# Altium schematic symbol library WR-WTB_1.50mm.SchLib: 27 symbols
Pins are listed as number, name and electrical type; pins without a type are passive.

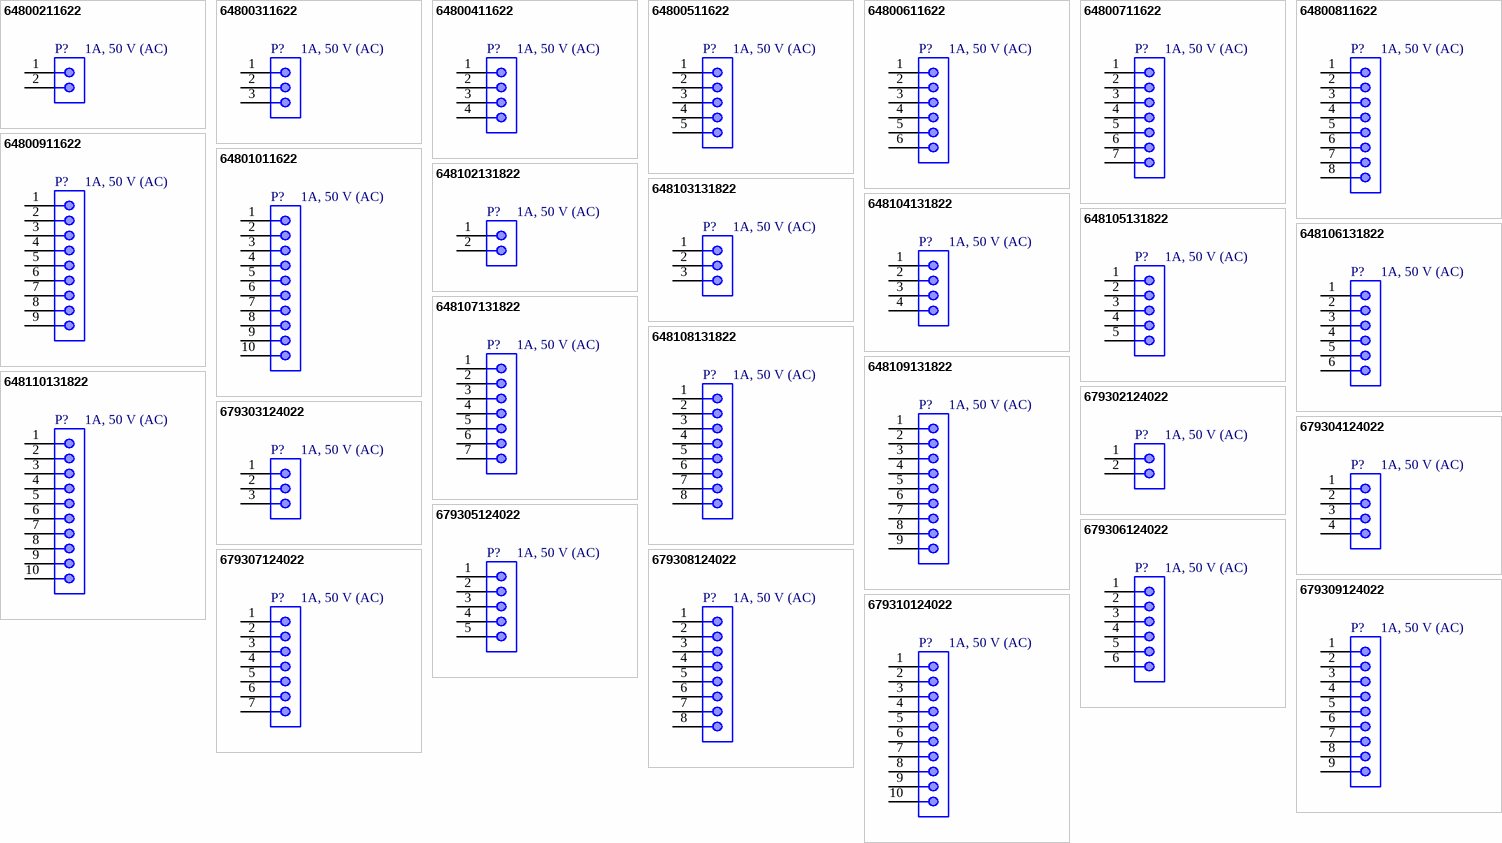
[diagram p0: symbols 64800211622 to 679310124022]

## 64800211622
designator P?, comment 1A, 50 V (AC)
WR-WTB THT Male Vertical Shrouded Header, pitch 1.5mm, 2p; Part Number: 64800211622; Pin Number: 2; Contact Resistance: 20mOhm; Withstanding Voltage: 500VAC; Working Voltage: 50VAC; ComponentLink1Description: Manufacturer; ComponentLink1URL: http://www.we-online.de; ComponentLink2Description: Datasheet; ComponentLink2URL: https://www.we-online.com/catalog/datasheet/64800211622.pdf; Pitch: 1.5mm; Published Date: January 2020; Publisher: Wurth Elektronik; Mounting Technology: THT; Packaging: Bag; Operating Temperature: -25 to +85degC; Gender: Male; Type: Vertical; Rated Current: 1A; ComponentLink3Description: Global Supply; ComponentLink3URL: https://www.we-online.com/en/components/products/WTB_1_50_MALE_VERTICAL_SHROUDED_HEADER_6480XX11622?sq=64800211622#64800211622; Supplier 1 Name: Mouser; Supplier 1 SN: N/A; Supplier 1 URL: N/A; Supplier 2 Name: Digi-Key; Supplier 2 SN: N/A; Supplier 2 URL: N/A; Supplier 3 Name: thegioiic; Supplier 3 SN: N/A; Supplier 3 URL: N/A; Value: 1A, 50 V (AC)
footprint 64800211622
pins: 1, 2

## 64800311622
designator P?, comment 1A, 50 V (AC)
WR-WTB THT Male Vertical Shrouded Header, pitch 1.5mm, 3p; Part Number: 64800311622; Pin Number: 3; Contact Resistance: 20mOhm; Withstanding Voltage: 500VAC; Working Voltage: 50VAC; ComponentLink1Description: Manufacturer; ComponentLink1URL: http://www.we-online.de; ComponentLink2Description: Datasheet; ComponentLink2URL: https://www.we-online.com/catalog/datasheet/64800311622.pdf; Pitch: 1.5mm; Published Date: January 2020; Publisher: Wurth Elektronik; Mounting Technology: THT; Packaging: Bag; Operating Temperature: -25 to +85degC; Gender: Male; Type: Vertical; Rated Current: 1A; ComponentLink3Description: Global Supply; ComponentLink3URL: https://www.we-online.com/en/components/products/WTB_1_50_MALE_VERTICAL_SHROUDED_HEADER_6480XX11622?sq=64800311622#64800311622; Supplier 1 Name: Mouser; Supplier 1 SN: N/A; Supplier 1 URL: N/A; Supplier 2 Name: Digi-Key; Supplier 2 SN: N/A; Supplier 2 URL: N/A; Supplier 3 Name: thegioiic; Supplier 3 SN: N/A; Supplier 3 URL: N/A; Value: 1A, 50 V (AC)
footprint 64800311622
pins: 1, 2, 3

## 64800411622
designator P?, comment 1A, 50 V (AC)
WR-WTB THT Male Vertical Shrouded Header, pitch 1.5mm, 4p; Part Number: 64800411622; Pin Number: 4; Contact Resistance: 20mOhm; Withstanding Voltage: 500VAC; Working Voltage: 50VAC; ComponentLink1Description: Manufacturer; ComponentLink1URL: http://www.we-online.de; ComponentLink2Description: Datasheet; ComponentLink2URL: https://www.we-online.com/catalog/datasheet/64800411622.pdf; Pitch: 1.5mm; Published Date: January 2020; Publisher: Wurth Elektronik; Mounting Technology: THT; Packaging: Bag; Operating Temperature: -25 to +85degC; Gender: Male; Type: Vertical; Rated Current: 1A; ComponentLink3Description: Global Supply; ComponentLink3URL: https://www.we-online.com/en/components/products/WTB_1_50_MALE_VERTICAL_SHROUDED_HEADER_6480XX11622?sq=64800411622#64800411622; Supplier 1 Name: Mouser; Supplier 1 SN: N/A; Supplier 1 URL: N/A; Supplier 2 Name: Digi-Key; Supplier 2 SN: N/A; Supplier 2 URL: N/A; Supplier 3 Name: thegioiic; Supplier 3 SN: N/A; Supplier 3 URL: N/A; Value: 1A, 50 V (AC)
footprint 64800411622
pins: 1, 2, 3, 4

## 64800511622
designator P?, comment 1A, 50 V (AC)
WR-WTB THT Male Vertical Shrouded Header, pitch 1.5mm, 5p; Part Number: 64800511622; Pin Number: 5; Contact Resistance: 20mOhm; Withstanding Voltage: 500VAC; Working Voltage: 50VAC; ComponentLink1Description: Manufacturer; ComponentLink1URL: http://www.we-online.de; ComponentLink2Description: Datasheet; ComponentLink2URL: https://www.we-online.com/catalog/datasheet/64800511622.pdf; Pitch: 1.5mm; Published Date: January 2020; Publisher: Wurth Elektronik; Mounting Technology: THT; Packaging: Bag; Operating Temperature: -25 to +85degC; Gender: Male; Type: Vertical; Rated Current: 1A; ComponentLink3Description: Global Supply; ComponentLink3URL: https://www.we-online.com/en/components/products/WTB_1_50_MALE_VERTICAL_SHROUDED_HEADER_6480XX11622?sq=64800511622#64800511622; Supplier 1 Name: Mouser; Supplier 1 SN: N/A; Supplier 1 URL: N/A; Supplier 2 Name: Digi-Key; Supplier 2 SN: N/A; Supplier 2 URL: N/A; Supplier 3 Name: thegioiic; Supplier 3 SN: N/A; Supplier 3 URL: N/A; Value: 1A, 50 V (AC)
footprint 64800511622
pins: 1, 2, 3, 4, 5

## 64800611622
designator P?, comment 1A, 50 V (AC)
WR-WTB THT Male Vertical Shrouded Header, pitch 1.5mm, 6p; Part Number: 64800611622; Pin Number: 6; Contact Resistance: 20mOhm; Withstanding Voltage: 500VAC; Working Voltage: 50VAC; ComponentLink1Description: Manufacturer; ComponentLink1URL: http://www.we-online.de; ComponentLink2Description: Datasheet; ComponentLink2URL: https://www.we-online.com/catalog/datasheet/64800611622.pdf; Pitch: 1.5mm; Published Date: January 2020; Publisher: Wurth Elektronik; Mounting Technology: THT; Packaging: Bag; Operating Temperature: -25 to +85degC; Gender: Male; Type: Vertical; Rated Current: 1A; ComponentLink3Description: Global Supply; ComponentLink3URL: https://www.we-online.com/en/components/products/WTB_1_50_MALE_VERTICAL_SHROUDED_HEADER_6480XX11622?sq=64800611622#64800611622; Supplier 1 Name: Mouser; Supplier 1 SN: N/A; Supplier 1 URL: N/A; Supplier 2 Name: Digi-Key; Supplier 2 SN: N/A; Supplier 2 URL: N/A; Supplier 3 Name: thegioiic; Supplier 3 SN: N/A; Supplier 3 URL: N/A; Value: 1A, 50 V (AC)
footprint 64800611622
pins: 1, 2, 3, 4, 5, 6

## 64800711622
designator P?, comment 1A, 50 V (AC)
WR-WTB THT Male Vertical Shrouded Header, pitch 1.5mm, 7p; Part Number: 64800711622; Pin Number: 7; Contact Resistance: 20mOhm; Withstanding Voltage: 500VAC; Working Voltage: 50VAC; ComponentLink1Description: Manufacturer; ComponentLink1URL: http://www.we-online.de; ComponentLink2Description: Datasheet; ComponentLink2URL: https://www.we-online.com/catalog/datasheet/64800711622.pdf; Pitch: 1.5mm; Published Date: January 2020; Publisher: Wurth Elektronik; Mounting Technology: THT; Packaging: Bag; Operating Temperature: -25 to +85degC; Gender: Male; Type: Vertical; Rated Current: 1A; ComponentLink3Description: Global Supply; ComponentLink3URL: https://www.we-online.com/en/components/products/WTB_1_50_MALE_VERTICAL_SHROUDED_HEADER_6480XX11622?sq=64800711622#64800711622; Supplier 1 Name: Mouser; Supplier 1 SN: N/A; Supplier 1 URL: N/A; Supplier 2 Name: Digi-Key; Supplier 2 SN: N/A; Supplier 2 URL: N/A; Supplier 3 Name: thegioiic; Supplier 3 SN: N/A; Supplier 3 URL: N/A; Value: 1A, 50 V (AC)
footprint 64800711622
pins: 1, 2, 3, 4, 5, 6, 7

## 64800811622
designator P?, comment 1A, 50 V (AC)
WR-WTB THT Male Vertical Shrouded Header, pitch 1.5mm, 8p; Part Number: 64800811622; Pin Number: 8; Contact Resistance: 20mOhm; Withstanding Voltage: 500VAC; Working Voltage: 50VAC; ComponentLink1Description: Manufacturer; ComponentLink1URL: http://www.we-online.de; ComponentLink2Description: Datasheet; ComponentLink2URL: https://www.we-online.com/catalog/datasheet/64800811622.pdf; Pitch: 1.5mm; Published Date: January 2020; Publisher: Wurth Elektronik; Mounting Technology: THT; Packaging: Bag; Operating Temperature: -25 to +85degC; Gender: Male; Type: Vertical; Rated Current: 1A; ComponentLink3Description: Global Supply; ComponentLink3URL: https://www.we-online.com/en/components/products/WTB_1_50_MALE_VERTICAL_SHROUDED_HEADER_6480XX11622?sq=64800811622#64800811622; Supplier 1 Name: Mouser; Supplier 1 SN: N/A; Supplier 1 URL: N/A; Supplier 2 Name: Digi-Key; Supplier 2 SN: N/A; Supplier 2 URL: N/A; Supplier 3 Name: thegioiic; Supplier 3 SN: N/A; Supplier 3 URL: N/A; Value: 1A, 50 V (AC)
footprint 64800811622
pins: 1, 2, 3, 4, 5, 6, 7, 8

## 64800911622
designator P?, comment 1A, 50 V (AC)
WR-WTB THT Male Vertical Shrouded Header, pitch 1.5mm, 9p; Part Number: 64800911622; Pin Number: 9; Contact Resistance: 20mOhm; Withstanding Voltage: 500VAC; Working Voltage: 50VAC; ComponentLink1Description: Manufacturer; ComponentLink1URL: http://www.we-online.de; ComponentLink2Description: Datasheet; ComponentLink2URL: https://www.we-online.com/catalog/datasheet/64800911622.pdf; Pitch: 1.5mm; Published Date: January 2020; Publisher: Wurth Elektronik; Mounting Technology: THT; Packaging: Bag; Operating Temperature: -25 to +85degC; Gender: Male; Type: Vertical; Rated Current: 1A; ComponentLink3Description: Global Supply; ComponentLink3URL: https://www.we-online.com/en/components/products/WTB_1_50_MALE_VERTICAL_SHROUDED_HEADER_6480XX11622?sq=64800911622#64800911622; Supplier 1 Name: Mouser; Supplier 1 SN: N/A; Supplier 1 URL: N/A; Supplier 2 Name: Digi-Key; Supplier 2 SN: N/A; Supplier 2 URL: N/A; Supplier 3 Name: thegioiic; Supplier 3 SN: N/A; Supplier 3 URL: N/A; Value: 1A, 50 V (AC)
footprint 64800911622
pins: 1, 2, 3, 4, 5, 6, 7, 8, 9

## 64801011622
designator P?, comment 1A, 50 V (AC)
WR-WTB THT Male Vertical Shrouded Header, pitch 1.5mm, 10p; Part Number: 64801011622; Pin Number: 10; Contact Resistance: 20mOhm; Withstanding Voltage: 500VAC; Working Voltage: 50VAC; ComponentLink1Description: Manufacturer; ComponentLink1URL: http://www.we-online.de; ComponentLink2Description: Datasheet; ComponentLink2URL: https://www.we-online.com/catalog/datasheet/64801011622.pdf; Pitch: 1.5mm; Published Date: January 2020; Publisher: Wurth Elektronik; Mounting Technology: THT; Packaging: Bag; Operating Temperature: -25 to +85degC; Gender: Male; Type: Vertical; Rated Current: 1A; ComponentLink3Description: Global Supply; ComponentLink3URL: https://www.we-online.com/en/components/products/WTB_1_50_MALE_VERTICAL_SHROUDED_HEADER_6480XX11622?sq=64801011622#64801011622; Supplier 1 Name: Mouser; Supplier 1 SN: N/A; Supplier 1 URL: N/A; Supplier 2 Name: Digi-Key; Supplier 2 SN: N/A; Supplier 2 URL: N/A; Supplier 3 Name: thegioiic; Supplier 3 SN: N/A; Supplier 3 URL: N/A; Value: 1A, 50 V (AC)
footprint 64801011622
pins: 1, 2, 3, 4, 5, 6, 7, 8, 9, 10

## 648102131822
designator P?, comment 1A, 50 V (AC)
WR-WTB SMT Male Horizontal Shrouded Header, pitch 1.5mm, 2p; Part Number: 648102131822; Pin Number: 2; Contact Resistance: 20mOhm; Withstanding Voltage: 500VAC; Working Voltage: 50VAC; ComponentLink1Description: Manufacturer; ComponentLink1URL: http://www.we-online.de; ComponentLink2Description: Datasheet; ComponentLink2URL: https://www.we-online.com/catalog/datasheet/648102131822.pdf; Pitch: 1.5mm; Published Date: January 2020; Publisher: Wurth Elektronik; Mounting Technology: SMT; Packaging: Tape and Reel; Operating Temperature: -25 to +85degC; Gender: Male; Type: Horizontal; Rated Current: 1A; ComponentLink3Description: Global Supply; ComponentLink3URL: https://www.we-online.com/en/components/products/WTB_1_50_SMT_MALE_HORIZONTAL_SHROUDED_HEADER_6481XX131822?sq=648102131822#648102131822; ComponentLink4Description: Global Supply; ComponentLink4URL: https://www.mouser.vn/ProductDetail/Wurth-Elektronik/648102131822?qs=ZtY9WdtwX54lEWs6ByaENA%3D%3D; Supplier 1 Name: Mouser; Supplier 1 SN: 710-648102131822; Supplier 1 URL: https://www.mouser.vn/ProductDetail/Wurth-Elektronik/648102131822?qs=ZtY9WdtwX54lEWs6ByaENA%3D%3D; Supplier 2 Name: Digi-Key; Supplier 2 SN: N/A; Supplier 2 URL: N/A; Supplier 3 Name: thegioiic; Supplier 3 SN: N/A; Supplier 3 URL: N/A; Value: 1A, 50 V (AC)
footprint 648102131822
pins: 1, 2

## 648103131822
designator P?, comment 1A, 50 V (AC)
WR-WTB SMT Male Horizontal Shrouded Header, pitch 1.5mm, 3p; Part Number: 648103131822; Pin Number: 3; Contact Resistance: 20mOhm; Withstanding Voltage: 500VAC; Working Voltage: 50VAC; ComponentLink1Description: Manufacturer; ComponentLink1URL: http://www.we-online.de; ComponentLink2Description: Datasheet; ComponentLink2URL: https://www.we-online.com/catalog/datasheet/648103131822.pdf; Pitch: 1.5mm; Published Date: January 2020; Publisher: Wurth Elektronik; Mounting Technology: SMT; Packaging: Tape and Reel; Operating Temperature: -25 to +85degC; Gender: Male; Type: Horizontal; Rated Current: 1A; ComponentLink3Description: Global Supply; ComponentLink3URL: https://www.we-online.com/en/components/products/WTB_1_50_SMT_MALE_HORIZONTAL_SHROUDED_HEADER_6481XX131822?sq=648103131822#648103131822; ComponentLink4Description: Global Supply; ComponentLink4URL: https://www.mouser.vn/ProductDetail/Wurth-Elektronik/648103131822?qs=W%252B2sBeLta1Z1VTNSRU75xA%3D%3D; Supplier 1 Name: Mouser; Supplier 1 SN: 710-648103131822; Supplier 1 URL: https://www.mouser.vn/ProductDetail/Wurth-Elektronik/648103131822?qs=W%252B2sBeLta1Z1VTNSRU75xA%3D%3D; Supplier 2 Name: Digi-Key; Supplier 2 SN: N/A; Supplier 2 URL: N/A; Supplier 3 Name: thegioiic; Supplier 3 SN: N/A; Supplier 3 URL: N/A; Value: 1A, 50 V (AC)
footprint 648103131822
pins: 1, 2, 3

## 648104131822
designator P?, comment 1A, 50 V (AC)
WR-WTB SMT Male Horizontal Shrouded Header, pitch 1.5mm, 4p; Part Number: 648104131822; Pin Number: 4; Contact Resistance: 20mOhm; Withstanding Voltage: 500VAC; Working Voltage: 50VAC; ComponentLink1Description: Manufacturer; ComponentLink1URL: http://www.we-online.de; ComponentLink2Description: Datasheet; ComponentLink2URL: https://www.we-online.com/catalog/datasheet/648104131822.pdf; Pitch: 1.5mm; Published Date: January 2020; Publisher: Wurth Elektronik; Mounting Technology: SMT; Packaging: Tape and Reel; Operating Temperature: -25 to +85degC; Gender: Male; Type: Horizontal; Rated Current: 1A; ComponentLink3Description: Global Supply; ComponentLink3URL: https://www.we-online.com/en/components/products/WTB_1_50_SMT_MALE_HORIZONTAL_SHROUDED_HEADER_6481XX131822?sq=648104131822#648104131822; ComponentLink4Description: Global Supply; ComponentLink4URL: https://www.mouser.vn/ProductDetail/Wurth-Elektronik/648104131822?qs=ZtY9WdtwX57XPjIMVYKZ6w%3D%3D; Supplier 1 Name: Mouser; Supplier 1 SN: 710-648104131822; Supplier 1 URL: https://www.mouser.vn/ProductDetail/Wurth-Elektronik/648104131822?qs=ZtY9WdtwX57XPjIMVYKZ6w%3D%3D; Supplier 2 Name: Digi-Key; Supplier 2 SN: N/A; Supplier 2 URL: N/A; Supplier 3 Name: thegioiic; Supplier 3 SN: N/A; Supplier 3 URL: N/A; Value: 1A, 50 V (AC)
footprint 648104131822
pins: 1, 2, 3, 4

## 648105131822
designator P?, comment 1A, 50 V (AC)
WR-WTB SMT Male Horizontal Shrouded Header, pitch 1.5mm, 5p; Part Number: 648105131822; Pin Number: 5; Contact Resistance: 20mOhm; Withstanding Voltage: 500VAC; Working Voltage: 50VAC; ComponentLink1Description: Manufacturer; ComponentLink1URL: http://www.we-online.de; ComponentLink2Description: Datasheet; ComponentLink2URL: https://www.we-online.com/catalog/datasheet/648105131822.pdf; Pitch: 1.5mm; Published Date: January 2020; Publisher: Wurth Elektronik; Mounting Technology: SMT; Packaging: Tape and Reel; Operating Temperature: -25 to +85degC; Gender: Male; Type: Horizontal; Rated Current: 1A; ComponentLink3Description: Global Supply; ComponentLink3URL: https://www.we-online.com/en/components/products/WTB_1_50_SMT_MALE_HORIZONTAL_SHROUDED_HEADER_6481XX131822?sq=648105131822#648105131822; ComponentLink4Description: Global Supply; ComponentLink4URL: https://www.mouser.vn/ProductDetail/Wurth-Elektronik/648105131822?qs=ZtY9WdtwX57xcCc%252BOvDCvA%3D%3D; Supplier 1 Name: Mouser; Supplier 1 SN: 710-648105131822; Supplier 1 URL: https://www.mouser.vn/ProductDetail/Wurth-Elektronik/648105131822?qs=ZtY9WdtwX57xcCc%252BOvDCvA%3D%3D; Supplier 2 Name: Digi-Key; Supplier 2 SN: N/A; Supplier 2 URL: N/A; Supplier 3 Name: thegioiic; Supplier 3 SN: N/A; Supplier 3 URL: N/A; Value: 1A, 50 V (AC)
footprint 648105131822
pins: 1, 2, 3, 4, 5

## 648106131822
designator P?, comment 1A, 50 V (AC)
WR-WTB SMT Male Horizontal Shrouded Header, pitch 1.5mm, 6p; Part Number: 648106131822; Pin Number: 6; Contact Resistance: 20mOhm; Withstanding Voltage: 500VAC; Working Voltage: 50VAC; ComponentLink1Description: Manufacturer; ComponentLink1URL: http://www.we-online.de; ComponentLink2Description: Datasheet; ComponentLink2URL: https://www.we-online.com/catalog/datasheet/648106131822.pdf; Pitch: 1.5mm; Published Date: January 2020; Publisher: Wurth Elektronik; Mounting Technology: SMT; Packaging: Tape and Reel; Operating Temperature: -25 to +85degC; Gender: Male; Type: Horizontal; Rated Current: 1A; ComponentLink3Description: Global Supply; ComponentLink3URL: https://www.we-online.com/en/components/products/WTB_1_50_SMT_MALE_HORIZONTAL_SHROUDED_HEADER_6481XX131822?sq=648105131822#648105131822; Supplier 1 Name: Mouser; Supplier 1 SN: N/A; Supplier 1 URL: N/A; Supplier 2 Name: Digi-Key; Supplier 2 SN: N/A; Supplier 2 URL: N/A; Supplier 3 Name: thegioiic; Supplier 3 SN: N/A; Supplier 3 URL: N/A; Value: 1A, 50 V (AC)
footprint 648106131822
pins: 1, 2, 3, 4, 5, 6

## 648107131822
designator P?, comment 1A, 50 V (AC)
WR-WTB SMT Male Horizontal Shrouded Header, pitch 1.5mm, 7p; Part Number: 648107131822; Pin Number: 7; Contact Resistance: 20mOhm; Withstanding Voltage: 500VAC; Working Voltage: 50VAC; ComponentLink1Description: Manufacturer; ComponentLink1URL: http://www.we-online.de; ComponentLink2Description: Datasheet; ComponentLink2URL: https://www.we-online.com/catalog/datasheet/648107131822.pdf; Pitch: 1.5mm; Published Date: January 2020; Publisher: Wurth Elektronik; Mounting Technology: SMT; Packaging: Tape and Reel; Operating Temperature: -25 to +85degC; Gender: Male; Type: Horizontal; Rated Current: 1A; ComponentLink3Description: Global Supply; ComponentLink3URL: https://www.we-online.com/en/components/products/WTB_1_50_SMT_MALE_HORIZONTAL_SHROUDED_HEADER_6481XX131822?sq=648107131822#648107131822; Supplier 1 Name: Mouser; Supplier 1 SN: N/A; Supplier 1 URL: N/A; Supplier 2 Name: Digi-Key; Supplier 2 SN: N/A; Supplier 2 URL: N/A; Supplier 3 Name: thegioiic; Supplier 3 SN: N/A; Supplier 3 URL: N/A; Value: 1A, 50 V (AC)
footprint 648107131822
pins: 1, 2, 3, 4, 5, 6, 7

## 648108131822
designator P?, comment 1A, 50 V (AC)
WR-WTB SMT Male Horizontal Shrouded Header, pitch 1.5mm, 8p; Part Number: 648108131822; Pin Number: 8; Contact Resistance: 20mOhm; Withstanding Voltage: 500VAC; Working Voltage: 50VAC; ComponentLink1Description: Manufacturer; ComponentLink1URL: http://www.we-online.de; ComponentLink2Description: Datasheet; ComponentLink2URL: https://www.we-online.com/catalog/datasheet/648108131822.pdf; Pitch: 1.5mm; Published Date: January 2020; Publisher: Wurth Elektronik; Mounting Technology: SMT; Packaging: Tape and Reel; Operating Temperature: -25 to +85degC; Gender: Male; Type: Horizontal; Rated Current: 1A; ComponentLink3Description: Global Suppply; ComponentLink3URL: https://www.we-online.com/en/components/products/WTB_1_50_SMT_MALE_HORIZONTAL_SHROUDED_HEADER_6481XX131822?sq=648108131822#648108131822; Supplier 1 Name: Mouser; Supplier 1 SN: N/A; Supplier 1 URL: N/A; Supplier 2 Name: Digi-Key; Supplier 2 SN: N/A; Supplier 2 URL: N/A; Supplier 3 Name: thegioiic; Supplier 3 SN: N/A; Supplier 3 URL: N/A; Value: 1A, 50 V (AC)
footprint 648108131822
pins: 1, 2, 3, 4, 5, 6, 7, 8

## 648109131822
designator P?, comment 1A, 50 V (AC)
WR-WTB SMT Male Horizontal Shrouded Header, pitch 1.5mm, 9p; Part Number: 648109131822; Pin Number: 9; Contact Resistance: 20mOhm; Withstanding Voltage: 500VAC; Working Voltage: 50VAC; ComponentLink1Description: Manufacturer; ComponentLink1URL: http://www.we-online.de; ComponentLink2Description: Datasheet; ComponentLink2URL: https://www.we-online.com/catalog/datasheet/648109131822.pdf; Pitch: 1.5mm; Published Date: January 2020; Publisher: Wurth Elektronik; Mounting Technology: SMT; Packaging: Tape and Reel; Operating Temperature: -25 to +85degC; Gender: Male; Type: Horizontal; Rated Current: 1A; ComponentLink3Description: Global Supply; ComponentLink3URL: https://www.we-online.com/en/components/products/WTB_1_50_SMT_MALE_HORIZONTAL_SHROUDED_HEADER_6481XX131822?sq=648109131822#648109131822; Supplier 1 Name: Mouser; Supplier 1 SN: N/A; Supplier 1 URL: N/A; Supplier 2 Name: Digi-Key; Supplier 2 SN: N/A; Supplier 2 URL: N/A; Supplier 3 Name: thegioiic; Supplier 3 SN: N/A; Supplier 3 URL: N/A; Value: 1A, 50 V (AC)
footprint 648109131822
pins: 1, 2, 3, 4, 5, 6, 7, 8, 9

## 648110131822
designator P?, comment 1A, 50 V (AC)
WR-WTB SMT Male Horizontal Shrouded Header, pitch 1.5mm, 10p; Part Number: 648110131822; Pin Number: 10; Contact Resistance: 20mOhm; Withstanding Voltage: 500VAC; Working Voltage: 50VAC; ComponentLink1Description: Manufacturer; ComponentLink1URL: http://www.we-online.de; ComponentLink2Description: Datasheet; ComponentLink2URL: https://www.we-online.com/catalog/datasheet/648110131822.pdf; Pitch: 1.5mm; Published Date: January 2020; Publisher: Wurth Elektronik; Mounting Technology: SMT; Packaging: Tape and Reel; Operating Temperature: -25 to +85degC; Gender: Male; Type: Horizontal; Rated Current: 1A; ComponentLink3Description: Global Supply; ComponentLink3URL: https://www.we-online.com/en/components/products/WTB_1_50_SMT_MALE_HORIZONTAL_SHROUDED_HEADER_6481XX131822?sq=648110131822#648110131822; ComponentLink4Description: Global Supply; ComponentLink4URL: https://www.mouser.vn/ProductDetail/Wurth-Elektronik/648110131822?qs=3RJ0PdSuLVmrqG7i4WUbBw%3D%3D; Supplier 1 Name: Mouser; Supplier 1 SN: N/A; Supplier 1 URL: N/A; Supplier 2 Name: Digi-Key; Supplier 2 SN: N/A; Supplier 2 URL: N/A; Supplier 3 Name: thegioiic; Supplier 3 SN: N/A; Supplier 3 URL: N/A; Value: 1A, 50 V (AC)
footprint 648110131822
pins: 1, 2, 3, 4, 5, 6, 7, 8, 9, 10

## 679302124022
designator P?, comment 1A, 50 V (AC)
WR-WTB SMT Male Vertical Shrouded Header, pitch 1.5mm, 2p; Part Number: 679302124022; Pin Number: 2; Contact Resistance: 20mOhm; Withstanding Voltage: 500VAC; Working Voltage: 50VAC; ComponentLink1Description: Manufacturer; ComponentLink1URL: http://www.we-online.de; ComponentLink2Description: Datasheet; ComponentLink2URL: https://www.we-online.com/catalog/datasheet/679302124022.pdf; Pitch: 1.5mm; Published Date: January 2020; Publisher: Wurth Elektronik; Mounting Technology: SMT; Packaging: Tape and Reel; Operating Temperature: -25 to +85degC; Gender: Male; Type: Vertical; Rated Current: 1A; ComponentLink3Description: Global Supply; ComponentLink3URL: https://www.we-online.com/en/components/products/WTB_1_50_SMT_MALE_VERTICAL_SHROUDED_HEADER_6793XX124022?sq=679302124022#679302124022; ComponentLink4Description: Global Supply; ComponentLink4URL: https://www.mouser.vn/ProductDetail/Wurth-Elektronik/679302124022?qs=ZtY9WdtwX57sAKkLBaRkmA%3D%3D; Supplier 1 Name: Mouser; Supplier 1 SN: 710-679302124022; Supplier 1 URL: https://www.mouser.vn/ProductDetail/Wurth-Elektronik/679302124022?qs=ZtY9WdtwX57sAKkLBaRkmA%3D%3D; Supplier 2 Name: Digi-Key; Supplier 2 SN: N/A; Supplier 2 URL: N/A; Supplier 3 Name: thegioiic; Supplier 3 SN: N/A; Supplier 3 URL: N/A; Value: 1A, 50 V (AC)
footprint 679302124022
pins: 1, 2

## 679303124022
designator P?, comment 1A, 50 V (AC)
WR-WTB SMT Male Vertical Shrouded Header, pitch 1.5mm, 3p; Part Number: 679303124022; Pin Number: 3; Contact Resistance: 20mOhm; Withstanding Voltage: 500VAC; Working Voltage: 50VAC; ComponentLink1Description: Manufacturer; ComponentLink1URL: http://www.we-online.de; ComponentLink2Description: Datasheet; ComponentLink2URL: https://www.we-online.com/catalog/datasheet/679303124022.pdf; Pitch: 1.5mm; Published Date: January 2020; Publisher: Wurth Elektronik; Mounting Technology: SMT; Packaging: Tape and Reel; Operating Temperature: -25 to +85degC; Gender: Male; Type: Vertical; Rated Current: 1A; ComponentLink3Description: Global Supply; ComponentLink3URL: https://www.we-online.com/en/components/products/WTB_1_50_SMT_MALE_VERTICAL_SHROUDED_HEADER_6793XX124022?sq=679303124022#679303124022; ComponentLink4Description: Global Supply; ComponentLink4URL: https://www.mouser.vn/ProductDetail/Wurth-Elektronik/679303124022?qs=W%252B2sBeLta1b80729RqVUew%3D%3D; Supplier 1 Name: Mouser; Supplier 1 SN: 710-679303124022; Supplier 1 URL: https://www.mouser.vn/ProductDetail/Wurth-Elektronik/679303124022?qs=W%252B2sBeLta1b80729RqVUew%3D%3D; Supplier 2 Name: Digi-Key; Supplier 2 SN: N/A; Supplier 2 URL: N/A; Supplier 3 Name: thegioiic; Supplier 3 SN: N/A; Supplier 3 URL: N/A; Value: 1A, 50 V (AC)
footprint 679303124022
pins: 1, 2, 3

## 679304124022
designator P?, comment 1A, 50 V (AC)
WR-WTB SMT Male Vertical Shrouded Header, pitch 1.5mm, 4p; Part Number: 679304124022; Pin Number: 4; Contact Resistance: 20mOhm; Withstanding Voltage: 500VAC; Working Voltage: 50VAC; ComponentLink1Description: Manufacturer; ComponentLink1URL: http://www.we-online.de; ComponentLink2Description: Datasheet; ComponentLink2URL: https://www.we-online.com/catalog/datasheet/679304124022.pdf; Pitch: 1.5mm; Published Date: January 2020; Publisher: Wurth Elektronik; Mounting Technology: SMT; Packaging: Tape and Reel; Operating Temperature: -25 to +85degC; Gender: Male; Type: Vertical; Rated Current: 1A; ComponentLink3Description: Global Supply; ComponentLink3URL: https://www.we-online.com/en/components/products/WTB_1_50_SMT_MALE_VERTICAL_SHROUDED_HEADER_6793XX124022?sq=679304124022#679304124022; ComponentLink4Description: Global Supply; ComponentLink4URL: https://www.mouser.vn/ProductDetail/Wurth-Elektronik/679304124022?qs=ZtY9WdtwX549lrnHoORd6w%3D%3D; Supplier 1 Name: Mouser; Supplier 1 SN: 710-679304124022; Supplier 1 URL: https://www.mouser.vn/ProductDetail/Wurth-Elektronik/679304124022?qs=ZtY9WdtwX549lrnHoORd6w%3D%3D; Supplier 2 Name: Digi-Key; Supplier 2 SN: N/A; Supplier 2 URL: N/A; Supplier 3 Name: thegioiic; Supplier 3 SN: N/A; Supplier 3 URL: N/A; Value: 1A, 50 V (AC)
footprint 679304124022
pins: 1, 2, 3, 4

## 679305124022
designator P?, comment 1A, 50 V (AC)
WR-WTB SMT Male Vertical Shrouded Header, pitch 1.5mm, 5p; Part Number: 679305124022; Pin Number: 5; Contact Resistance: 20mOhm; Withstanding Voltage: 500VAC; Working Voltage: 50VAC; ComponentLink1Description: Manufacturer; ComponentLink1URL: http://www.we-online.de; ComponentLink2Description: Datasheet; ComponentLink2URL: https://www.we-online.com/catalog/datasheet/679305124022.pdf; Pitch: 1.5mm; Published Date: January 2020; Publisher: Wurth Elektronik; Mounting Technology: SMT; Packaging: Tape and Reel; Operating Temperature: -25 to +85degC; Gender: Male; Type: Vertical; Rated Current: 1A; ComponentLink3Description: Global Supply; ComponentLink3URL: https://www.we-online.com/en/components/products/WTB_1_50_SMT_MALE_VERTICAL_SHROUDED_HEADER_6793XX124022?sq=679305124022#679305124022; ComponentLink4Description: Global Supply; ComponentLink4URL: https://www.mouser.vn/ProductDetail/Wurth-Elektronik/679305124022?qs=ZtY9WdtwX5433N6c7YZdTw%3D%3D; Supplier 1 Name: Mouser; Supplier 1 SN: 710-679305124022; Supplier 1 URL: https://www.mouser.vn/ProductDetail/Wurth-Elektronik/679305124022?qs=ZtY9WdtwX5433N6c7YZdTw%3D%3D; Supplier 2 Name: Digi-Key; Supplier 2 SN: N/A; Supplier 2 URL: N/A; Supplier 3 Name: thegioiic; Supplier 3 SN: N/A; Supplier 3 URL: N/A; Value: 1A, 50 V (AC)
footprint 679305124022
pins: 1, 2, 3, 4, 5

## 679306124022
designator P?, comment 1A, 50 V (AC)
WR-WTB SMT Male Vertical Shrouded Header, pitch 1.5mm, 6p; Part Number: 679306124022; Pin Number: 6; Contact Resistance: 20mOhm; Withstanding Voltage: 500VAC; Working Voltage: 50VAC; ComponentLink1Description: Manufacturer; ComponentLink1URL: http://www.we-online.de; ComponentLink2Description: Datasheet; ComponentLink2URL: https://www.we-online.com/catalog/datasheet/679306124022.pdf; Pitch: 1.5mm; Published Date: January 2020; Publisher: Wurth Elektronik; Mounting Technology: SMT; Packaging: Tape and Reel; Operating Temperature: -25 to +85degC; Gender: Male; Type: Vertical; Rated Current: 1A; ComponentLink3Description: Global Supply; ComponentLink3URL: https://www.we-online.com/en/components/products/WTB_1_50_SMT_MALE_VERTICAL_SHROUDED_HEADER_6793XX124022?sq=679306124022#679306124022; Supplier 1 Name: Mouser; Supplier 1 SN: N/A; Supplier 1 URL: N/A; Supplier 2 Name: Digi-Key; Supplier 2 SN: N/A; Supplier 2 URL: N/A; Supplier 3 Name: thegioiic; Supplier 3 SN: N/A; Supplier 3 URL: N/A; Value: 1A, 50 V (AC)
footprint 679306124022
pins: 1, 2, 3, 4, 5, 6

## 679307124022
designator P?, comment 1A, 50 V (AC)
WR-WTB SMT Male Vertical Shrouded Header, pitch 1.5mm, 7p; Part Number: 679307124022; Pin Number: 7; Contact Resistance: 20mOhm; Withstanding Voltage: 500VAC; Working Voltage: 50VAC; ComponentLink1Description: Manufacturer; ComponentLink1URL: http://www.we-online.de; ComponentLink2Description: Datasheet; ComponentLink2URL: https://www.we-online.com/catalog/datasheet/679307124022.pdf; Pitch: 1.5mm; Published Date: January 2020; Publisher: Wurth Elektronik; Mounting Technology: SMT; Packaging: Tape and Reel; Operating Temperature: -25 to +85degC; Gender: Male; Type: Vertical; Rated Current: 1A; ComponentLink3Description: Global Supply; ComponentLink3URL: https://www.we-online.com/en/components/products/WTB_1_50_SMT_MALE_VERTICAL_SHROUDED_HEADER_6793XX124022?sq=679307124022#679307124022; Supplier 1 Name: Mouser; Supplier 1 SN: N/A; Supplier 1 URL: N/A; Supplier 2 Name: Digi-Key; Supplier 2 SN: N/A; Supplier 2 URL: N/A; Supplier 3 Name: thegioiic; Supplier 3 SN: N/A; Supplier 3 URL: N/A; Value: 1A, 50 V (AC)
footprint 679307124022
pins: 1, 2, 3, 4, 5, 6, 7

## 679308124022
designator P?, comment 1A, 50 V (AC)
WR-WTB SMT Male Vertical Shrouded Header, pitch 1.5mm, 8p; Part Number: 679308124022; Pin Number: 8; Contact Resistance: 20mOhm; Withstanding Voltage: 500VAC; Working Voltage: 50VAC; ComponentLink1Description: Manufacturer; ComponentLink1URL: http://www.we-online.de; ComponentLink2Description: Datasheet; ComponentLink2URL: https://www.we-online.com/catalog/datasheet/679308124022.pdf; Pitch: 1.5mm; Published Date: January 2020; Publisher: Wurth Elektronik; Mounting Technology: SMT; Packaging: Tape and Reel; Operating Temperature: -25 to +85degC; Gender: Male; Type: Vertical; Rated Current: 1A; ComponentLink3Description: Global Supply; ComponentLink3URL: https://www.we-online.com/en/components/products/WTB_1_50_SMT_MALE_VERTICAL_SHROUDED_HEADER_6793XX124022?sq=679308124022#679308124022; Supplier 1 Name: Mouser; Supplier 1 SN: N/A; Supplier 1 URL: N/A; Supplier 2 Name: Digi-Key; Supplier 2 SN: N/A; Supplier 2 URL: N/A; Supplier 3 Name: thegioiic; Supplier 3 SN: N/A; Supplier 3 URL: N/A; Value: 1A, 50 V (AC)
footprint 679308124022
pins: 1, 2, 3, 4, 5, 6, 7, 8

## 679309124022
designator P?, comment 1A, 50 V (AC)
WR-WTB SMT Male Vertical Shrouded Header, pitch 1.5mm, 9p; Part Number: 679309124022; Pin Number: 9; Contact Resistance: 20mOhm; Withstanding Voltage: 500VAC; Working Voltage: 50VAC; ComponentLink1Description: Manufacturer; ComponentLink1URL: http://www.we-online.de; ComponentLink2Description: Datasheet; ComponentLink2URL: https://www.we-online.com/catalog/datasheet/679309124022.pdf; Pitch: 1.5mm; Published Date: January 2020; Publisher: Wurth Elektronik; Mounting Technology: SMT; Packaging: Tape and Reel; Operating Temperature: -25 to +85degC; Gender: Male; Type: Vertical; Rated Current: 1A; ComponentLink3Description: Global Supply; ComponentLink3URL: https://www.we-online.com/en/components/products/WTB_1_50_SMT_MALE_VERTICAL_SHROUDED_HEADER_6793XX124022?sq=679309124022#679309124022; Supplier 1 Name: Mouser; Supplier 1 SN: N/A; Supplier 1 URL: N/A; Supplier 2 Name: Digi-Key; Supplier 2 SN: N/A; Supplier 2 URL: N/A; Supplier 3 Name: thegioiic; Supplier 3 SN: N/A; Supplier 3 URL: N/A; Value: 1A, 50 V (AC)
footprint 679309124022
pins: 1, 2, 3, 4, 5, 6, 7, 8, 9

## 679310124022
designator P?, comment 1A, 50 V (AC)
WR-WTB SMT Male Vertical Shrouded Header, pitch 1.5mm, 10p; Part Number: 679310124022; Pin Number: 10; Contact Resistance: 20mOhm; Withstanding Voltage: 500VAC; Working Voltage: 50VAC; ComponentLink1Description: Manufacturer; ComponentLink1URL: http://www.we-online.de; ComponentLink2Description: Datasheet; ComponentLink2URL: https://www.we-online.com/catalog/datasheet/679310124022.pdf; Pitch: 1.5mm; Published Date: January 2020; Publisher: Wurth Elektronik; Mounting Technology: SMT; Packaging: Tape and Reel; Operating Temperature: -25 to +85degC; Gender: Male; Type: Vertical; Rated Current: 1A; ComponentLink3Description: Global Supply; ComponentLink3URL: https://www.we-online.com/en/components/products/WTB_1_50_SMT_MALE_VERTICAL_SHROUDED_HEADER_6793XX124022?sq=679310124022#679310124022; Supplier 1 Name: Mouser; Supplier 1 SN: N/A; Supplier 1 URL: N/A; Supplier 2 Name: Digi-Key; Supplier 2 SN: N/A; Supplier 2 URL: N/A; Supplier 3 Name: thegioiic; Supplier 3 SN: N/A; Supplier 3 URL: N/A; Value: 1A, 50 V (AC)
footprint 679310124022
pins: 1, 2, 3, 4, 5, 6, 7, 8, 9, 10